# Altium footprint library Demo_BIT.PcbLib: 58 footprints (part 4 of 4)
Each footprint in its own frame and in the unit in brackets; x right, y up, seen from the top. Pads: shape width x height; smd on the part's side, far side on the other; paste and mask are expansions set on the pad; w line width, h text height; cw(c..) or ccw(c..) is an arc to the next point about the centre after c.
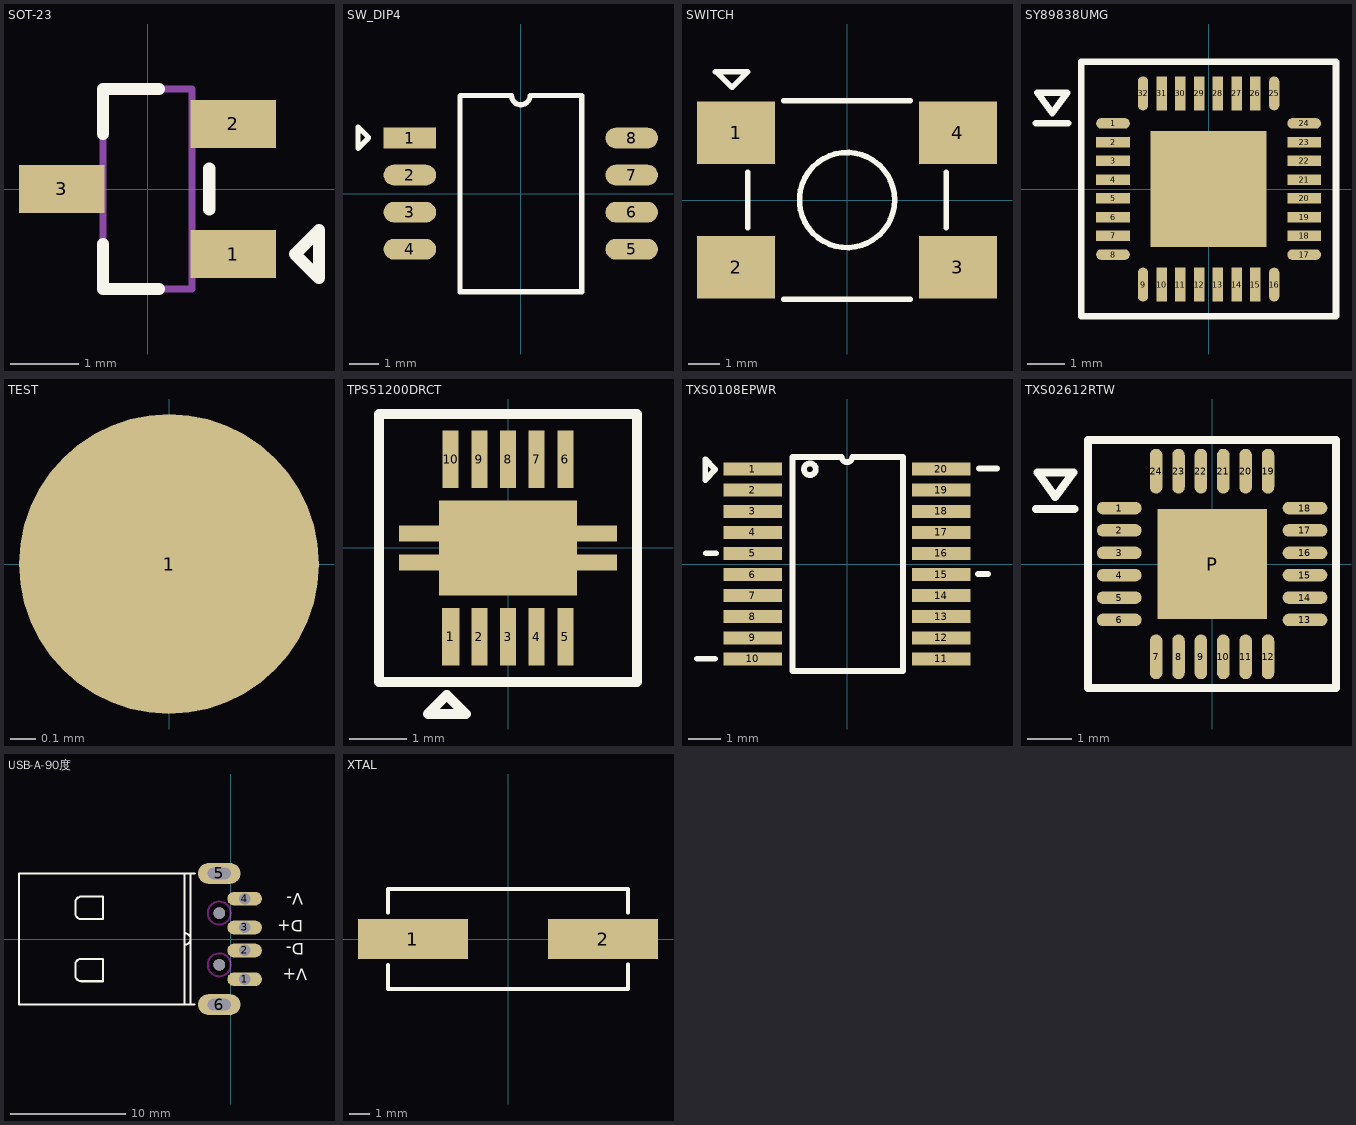
[diagram p3: the footprints below, top view; thin cyan lines are the x and y axes]

## SOT-23 [mm]
height 1.1
pads (3):
  rect 1.25x0.7 smd: 1(1.25,-0.95) 2(1.25,0.95) 3(-1.25,0)
Top Overlay:
  lines w0.178: -0.65,-0.8 -0.65,-1.46 0.165,-1.46 ; 0.165,1.46 -0.65,1.46 ; 0.9,-0.3 0.9,0.3 ; -0.65,0.8 -0.65,1.46 ; -0.65,0.8 -0.65,1.46 ; -0.65,0.8 -0.65,1.46 ; 2.15,-0.95 2.5,-1.3 2.5,-0.6 2.15,-0.95
Mechanical 13:
  lines w0.1: -0.65,-1.46 -0.65,1.46 ; -0.65,-1.46 0.65,-1.46 ; -0.65,-1.46 0.65,-1.46 ; -0.65,-1.46 -0.65,1.46 ; -0.65,-1.46 0.65,-1.46 ; -0.65,-1.46 -0.65,1.46 ; -0.65,1.46 0.65,1.46 ; -0.65,1.46 0.65,1.46 ; -0.65,1.46 0.65,1.46 ; 0.65,-1.46 0.65,1.46 ; 0.65,-1.46 0.65,1.46 ; 0.65,-1.46 0.65,1.46
3D body: height 1.3, standoff 0, extent -1.5,-1.5 1.5,1.5

## SW_DIP4 [mm]
pads (8):
  rect 1.8x0.71 smd: 1(-3.8,1.905)
  oval 1.8x0.71 smd: 2(-3.8,0.635) 3(-3.8,-0.635) 4(-3.8,-1.905) 5(3.8,-1.905) 6(3.8,-0.635) 7(3.8,0.635) 8(3.8,1.905)
Top Overlay:
  lines w0.178: -5.578,1.549 -5.222,1.905 -5.222,1.93 -5.578,2.286 -5.578,1.549 ; -2.087,-3.36 2.087,-3.36 2.087,3.36 0.318,3.36 cw(c0,3.36) -0.318,3.36 -2.087,3.36 -2.087,-3.36

## SWITCH [mm]
height 1.1
pads (4):
  rect 2.5x2 smd: 1(-3.556,2.159) 2(-3.556,-2.159) 3(3.556,-2.159) 4(3.556,2.159)
Top Overlay:
  circle w0.178: c0,0 r1.524
  lines w0.178: -4.216,4.115 -3.175,4.115 -3.683,3.607 -4.191,4.115 ; -3.175,-0.889 -3.175,0.889 ; -2.032,-3.175 2.032,-3.175 ; -2.032,3.175 2.032,3.175 ; 3.175,-0.889 3.175,0.889
3D body: height 6, standoff 0, extent -1.524,-1.524 1.524,1.524
3D body: height 1.5, standoff 0, extent -3.175,-3.175 3.175,3.175

## SY89838UMG [mm]
height 1.1
pads (33):
  oval 0.9x0.279 smd: 1(-2.55,1.75) 8(-2.55,-1.75) 17(2.55,-1.75) 24(2.55,1.75)
  rect 0.9x0.279 smd: 2(-2.55,1.25) 3(-2.55,0.75) 4(-2.55,0.25) 5(-2.55,-0.25) 6(-2.55,-0.75) 7(-2.55,-1.25) 18(2.55,-1.25) 19(2.55,-0.75) 20(2.55,-0.25) 21(2.55,0.25) 22(2.55,0.75) 23(2.55,1.25)
  oval 0.279x0.9 smd: 9(-1.75,-2.55) 16(1.75,-2.55) 25(1.75,2.55) 32(-1.75,2.55)
  rect 0.279x0.9 smd: 10(-1.25,-2.55) 11(-0.75,-2.55) 12(-0.25,-2.55) 13(0.25,-2.55) 14(0.75,-2.55) 15(1.25,-2.55) 26(1.25,2.55) 27(0.75,2.55) 28(0.25,2.55) 29(-0.25,2.55) 30(-0.75,2.55) 31(-1.25,2.55)
  rect 3.1x3.1 smd: ""(0,0)
Top Overlay:
  lines w0.178: -4.605,1.757 -3.742,1.757 ; -4.568,2.571 -4.176,2.025 -3.768,2.571 -4.568,2.571 ; -3.4,-3.4 3.4,-3.4 3.4,3.4 -3.4,3.4 -3.4,-3.4

## TEST [mm]
height 1.1
pads (1):
  round 1.2 smd: 1(0,0)

## TPS51200DRCT [mm]
pads (15):
  rect 0.305x1 smd: 1(-1,-1.55)
  rect 0.279x1 smd: 2(-0.5,-1.55) 3(0,-1.55) 4(0.5,-1.55) 5(1,-1.55) 6(1,1.55) 7(0.5,1.55) 8(0,1.55) 9(-0.5,1.55) 10(-1,1.55)
  rect 0.8x0.28 smd: ""(-1.5,-0.25) ""(-1.5,0.25) ""(1.5,-0.25) ""(1.5,0.25)
  rect 2.4x1.65 smd: ""(0,0)
Top Overlay:
  lines w0.178: -2.25,-2.337 2.25,-2.337 2.25,2.337 -2.25,2.337 -2.25,-2.337 ; -1.397,-2.896 -0.737,-2.896 -1.067,-2.565 -1.397,-2.896

## TXS0108EPWR [mm]
pads (20):
  rect 1.8x0.4 smd: 1(-2.9,2.925) 2(-2.9,2.275) 3(-2.9,1.625) 4(-2.9,0.975) 5(-2.9,0.325) 6(-2.9,-0.325) 7(-2.9,-0.975) 8(-2.9,-1.625) 9(-2.9,-2.275) 10(-2.9,-2.925) 11(2.9,-2.925) 12(2.9,-2.275) 13(2.9,-1.625) 14(2.9,-0.975) 15(2.9,-0.325) 16(2.9,0.325) 17(2.9,0.975) 18(2.9,1.625) 19(2.9,2.275) 20(2.9,2.925)
Top Overlay:
  circle w0.178: c-1.143,2.921 r0.18
  lines w0.178: -4.623,-2.921 -4.064,-2.921 ; -4.343,0.33 -4.039,0.33 ; 4.039,-0.305 4.343,-0.305 ; 4.064,2.946 4.623,2.946 ; -4.369,2.591 -4.369,3.226 -4.064,2.921 -4.369,2.591 ; -1.676,-3.3 1.727,-3.3 1.727,3.3 0.162,3.3 cw(c0,3.3) -0.162,3.3 -1.676,3.3 -1.676,-3.3

## TXS02612RTW [mm]
pads (25):
  oval 1x0.279 smd: 1(-2.075,1.25) 2(-2.075,0.75) 3(-2.075,0.25) 4(-2.075,-0.25) 5(-2.075,-0.75) 6(-2.075,-1.25) 13(2.075,-1.25) 14(2.075,-0.75) 15(2.075,-0.25) 16(2.075,0.25) 17(2.075,0.75) 18(2.075,1.25)
  oval 0.279x1 smd: 7(-1.25,-2.075) 8(-0.75,-2.075) 9(-0.25,-2.075) 10(0.25,-2.075) 11(0.75,-2.075) 12(1.25,-2.075) 19(1.25,2.075) 20(0.75,2.075) 21(0.25,2.075) 22(-0.25,2.075) 23(-0.75,2.075) 24(-1.25,2.075)
  rect 2.45x2.45 smd: P(0,0)
Top Overlay:
  lines w0.178: -3.934,1.231 -3.071,1.231 ; -3.897,2.045 -3.097,2.045 -3.505,1.499 -3.897,2.045 ; -2.769,-2.769 -2.769,2.769 2.769,2.769 2.769,-2.769 -2.769,-2.769

## USB-A-90度 [mm]
height 5
pads (8):
  oval 3x1.2 hole 1: 1(1.2,-3.497) 2(1.2,-0.997) 3(1.2,1.003) 4(1.2,3.503)
  oval 3.7x1.8 hole 1 slot 2 at 0 deg: 5(-1.002,5.698) 6(-1.002,-5.698)
  round 1 hole 1 unplated: ""(-1.002,-2.245) ""(-1.002,2.255)
Top Overlay:
  lines w0.178: -4.002,-5.695 -4.002,5.705 ; -4.002,-0.495 ccw(c-4.002,0.005) -4.002,0.505 ; -3.502,-5.695 -3.502,5.705 ; -3.15,-5.695 -18.402,-5.695 -18.402,5.705 -3.099,5.705 ; -13.502,-3.17 ccw(c-13.002,-3.17) -13.002,-3.67 -11.102,-3.67 -11.102,-1.72 -13.002,-1.72 ccw(c-13.002,-2.22) -13.502,-2.22 -13.502,-3.17 ; -13.502,2.23 ccw(c-13.002,2.23) -13.002,1.73 -11.102,1.73 -11.102,3.68 -13.002,3.68 ccw(c-13.002,3.18) -13.502,3.18 -13.502,2.23
  text "D+" at 6.278,1.64 h1
  text "V+" at 6.665,-2.596 h1
  text "V-" at 6.278,3.972 h1
  text "D-" at 6.376,-0.371 h1
Keep-Out Layer:
  circle w0.178: c-1.002,-2.245 r1
  circle w0.178: c-1.002,2.255 r1

## XTAL [mm]
height 1.1
pads (2):
  rect 5.5x2 smd: 1(-4.75,0) 2(4.75,0)
Top Overlay:
  lines w0.178: -6,-1.29 -6,-2.5 6,-2.5 6,-1.276 ; -6,1.315 -6,2.5 6,2.5 6,1.315